# Altium schematic symbol library jlcpcb_2025_04_inductors_extended_1210.schlib: 422 symbols (part 6 of 8)
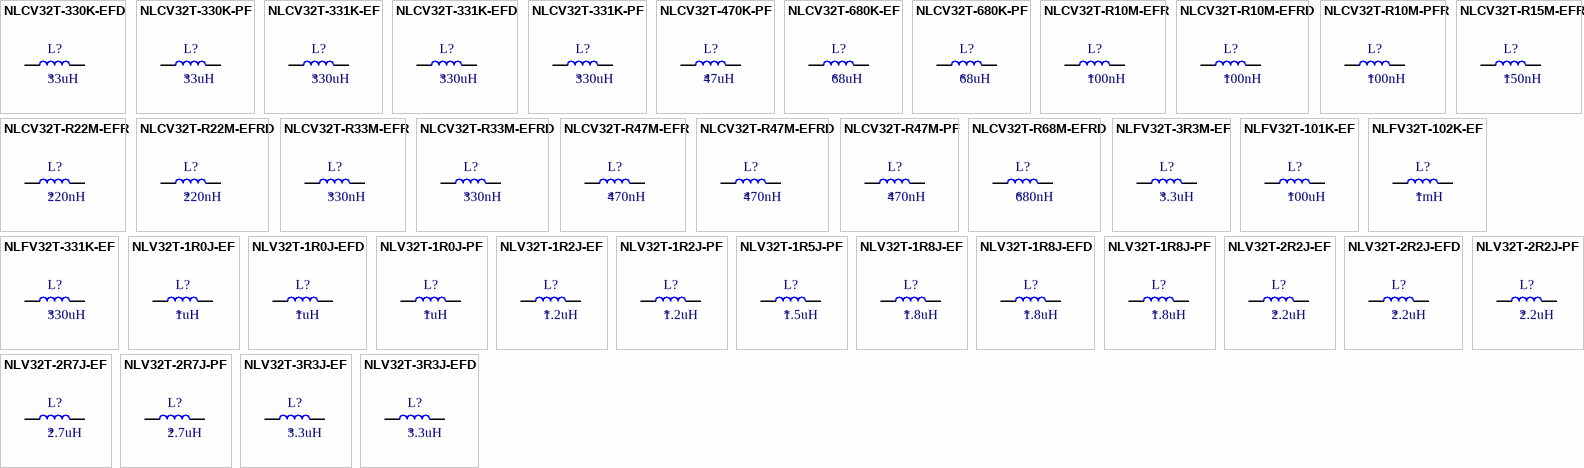
[diagram p15: symbols NLCV32T-330K-EFD to NLV32T-3R3J-EFD]

## NLV32T-1R2J-PF
designator L?  Inductance: 1.2uH
Inductor, 1.2uH, ±5%, 750mΩ, 390mA, SMD 1210; Manufacturer: TDK; Manufacturer Part Number: NLV32T-1R2J-PF; Self-Resonant Frequency: 100MHz; Q Factor: 30@7.96MHz; Package Size: 1210; JLCPCB Basic Part: No; JLCPCB Part Number: C87562; Supplier 1: LCSC; Category: Inductors; Supplier Part Number 1: C87562; Tolerance: ±5%; Rated Current: 390mA; DC Resistance: 750mΩ; RoHS: Yes; ComponentLink1Description: Datasheet; ComponentLink1URL: https://wmsc.lcsc.com/wmsc/upload/file/pdf/v2/lcsc/2304140030_TDK-NLV32T-1R2J-PF_C87562.pdf; ComponentLink2Description: JLCPCB Part URL; ComponentLink2URL: https://jlcpcb.com/partdetail/C87562; ComponentLink3Description: LCSC Part URL; ComponentLink3URL: https://lcsc.com/product-detail/Inductors-SMD_TDK-TDK-NLV32T-1R2J-PF_C87562.html
footprint IND-1210 (1210 (3225M) Inductor)
pins: 1, 2

## NLV32T-1R5J-PF
designator L?  Inductance: 1.5uH
Inductor, 1.5uH, ±5%, 850mΩ, 370mA, SMD 1210; Manufacturer: TDK; Manufacturer Part Number: NLV32T-1R5J-PF; Self-Resonant Frequency: 85MHz; Q Factor: 30@7.96MHz; Package Size: 1210; JLCPCB Basic Part: No; JLCPCB Part Number: C76837; Supplier 1: LCSC; Category: Inductors; Supplier Part Number 1: C76837; Tolerance: ±5%; Rated Current: 370mA; DC Resistance: 850mΩ; RoHS: Yes; ComponentLink1Description: Datasheet; ComponentLink1URL: https://wmsc.lcsc.com/wmsc/upload/file/pdf/v2/lcsc/2304140030_TDK-NLV32T-1R5J-PF_C76837.pdf; ComponentLink2Description: JLCPCB Part URL; ComponentLink2URL: https://jlcpcb.com/partdetail/C76837; ComponentLink3Description: LCSC Part URL; ComponentLink3URL: https://lcsc.com/product-detail/Inductors-SMD_TDK-TDK-NLV32T-1R5J-PF_C76837.html
footprint IND-1210 (1210 (3225M) Inductor)
pins: 1, 2

## NLV32T-1R8J-EF
designator L?  Inductance: 1.8uH
Inductor, 1.8uH, ±5%, 900mΩ, 350mA, SMD 1210; Manufacturer: TDK; Manufacturer Part Number: NLV32T-1R8J-EF; Self-Resonant Frequency: 80MHz; Q Factor: 30@7.96MHz; Package Size: 1210; JLCPCB Basic Part: No; JLCPCB Part Number: C295127; Supplier 1: LCSC; Category: Inductors; Supplier Part Number 1: C295127; Tolerance: ±5%; Rated Current: 350mA; DC Resistance: 900mΩ; RoHS: Yes; ComponentLink1Description: Datasheet; ComponentLink1URL: https://wmsc.lcsc.com/wmsc/upload/file/pdf/v2/lcsc/2304140030_TDK-NLV32T-1R8J-EF_C295127.pdf; ComponentLink2Description: JLCPCB Part URL; ComponentLink2URL: https://jlcpcb.com/partdetail/C295127; ComponentLink3Description: LCSC Part URL; ComponentLink3URL: https://lcsc.com/product-detail/Inductors-SMD_TDK-TDK-NLV32T-1R8J-EF_C295127.html
footprint IND-1210 (1210 (3225M) Inductor)
pins: 1, 2

## NLV32T-1R8J-EFD
designator L?  Inductance: 1.8uH
Inductor, 1.8uH, ±5%, 900mΩ, 350mA, SMD 1210; Manufacturer: TDK; Manufacturer Part Number: NLV32T-1R8J-EFD; Self-Resonant Frequency: 80MHz; Q Factor: 30@7.96MHz; Package Size: 1210; JLCPCB Basic Part: No; JLCPCB Part Number: C295306; Supplier 1: LCSC; Category: Inductors; Supplier Part Number 1: C295306; Tolerance: ±5%; Rated Current: 350mA; DC Resistance: 900mΩ; RoHS: Yes; ComponentLink1Description: Datasheet; ComponentLink1URL: https://wmsc.lcsc.com/wmsc/upload/file/pdf/v2/lcsc/2304140030_TDK-NLV32T-1R8J-EFD_C295306.pdf; ComponentLink2Description: JLCPCB Part URL; ComponentLink2URL: https://jlcpcb.com/partdetail/C295306; ComponentLink3Description: LCSC Part URL; ComponentLink3URL: https://lcsc.com/product-detail/Inductors-SMD_TDK-TDK-NLV32T-1R8J-EFD_C295306.html
footprint IND-1210 (1210 (3225M) Inductor)
pins: 1, 2

## NLV32T-1R8J-PF
designator L?  Inductance: 1.8uH
Inductor, 1.8uH, ±5%, 900mΩ, 350mA, SMD 1210; Manufacturer: TDK; Manufacturer Part Number: NLV32T-1R8J-PF; Self-Resonant Frequency: 80MHz; Q Factor: 30@7.96MHz; Package Size: 1210; JLCPCB Basic Part: No; JLCPCB Part Number: C41039; Supplier 1: LCSC; Category: Inductors; Supplier Part Number 1: C41039; Tolerance: ±5%; Rated Current: 350mA; DC Resistance: 900mΩ; RoHS: Yes; ComponentLink1Description: Datasheet; ComponentLink1URL: https://wmsc.lcsc.com/wmsc/upload/file/pdf/v2/lcsc/1810211512_TDK-NLV32T-1R8J-PF_C41039.pdf; ComponentLink2Description: JLCPCB Part URL; ComponentLink2URL: https://jlcpcb.com/partdetail/C41039; ComponentLink3Description: LCSC Part URL; ComponentLink3URL: https://lcsc.com/product-detail/Inductors-SMD_TDK-TDK-NLV32T-1R8J-PF_C41039.html
footprint IND-1210 (1210 (3225M) Inductor)
pins: 1, 2

## NLV32T-2R2J-EF
designator L?  Inductance: 2.2uH
Inductor, 2.2uH, ±5%, 1Ω, 320mA, SMD 1210; Manufacturer: TDK; Manufacturer Part Number: NLV32T-2R2J-EF; Self-Resonant Frequency: 75MHz; Q Factor: 30@7.96MHz; Package Size: 1210; JLCPCB Basic Part: No; JLCPCB Part Number: C286757; Supplier 1: LCSC; Category: Inductors; Supplier Part Number 1: C286757; Tolerance: ±5%; Rated Current: 320mA; DC Resistance: 1Ω; RoHS: Yes; ComponentLink1Description: Datasheet; ComponentLink1URL: https://wmsc.lcsc.com/wmsc/upload/file/pdf/v2/lcsc/2304140030_TDK-NLV32T-2R2J-EF_C286757.pdf; ComponentLink2Description: JLCPCB Part URL; ComponentLink2URL: https://jlcpcb.com/partdetail/C286757; ComponentLink3Description: LCSC Part URL; ComponentLink3URL: https://lcsc.com/product-detail/Inductors-SMD_TDK-TDK-NLV32T-2R2J-EF_C286757.html
footprint IND-1210 (1210 (3225M) Inductor)
pins: 1, 2

## NLV32T-2R2J-EFD
designator L?  Inductance: 2.2uH
Inductor, 2.2uH, ±5%, 1Ω, 320mA, SMD 1210; Manufacturer: TDK; Manufacturer Part Number: NLV32T-2R2J-EFD; Self-Resonant Frequency: 75MHz; Q Factor: 30@7.96MHz; Package Size: 1210; JLCPCB Basic Part: No; JLCPCB Part Number: C295323; Supplier 1: LCSC; Category: Inductors; Supplier Part Number 1: C295323; Tolerance: ±5%; Rated Current: 320mA; DC Resistance: 1Ω; RoHS: Yes; ComponentLink1Description: Datasheet; ComponentLink1URL: https://wmsc.lcsc.com/wmsc/upload/file/pdf/v2/lcsc/2304140030_TDK-NLV32T-2R2J-EFD_C295323.pdf; ComponentLink2Description: JLCPCB Part URL; ComponentLink2URL: https://jlcpcb.com/partdetail/C295323; ComponentLink3Description: LCSC Part URL; ComponentLink3URL: https://lcsc.com/product-detail/Inductors-SMD_TDK-TDK-NLV32T-2R2J-EFD_C295323.html
footprint IND-1210 (1210 (3225M) Inductor)
pins: 1, 2

## NLV32T-2R2J-PF
designator L?  Inductance: 2.2uH
Inductor, 2.2uH, ±5%, 1Ω, 320mA, SMD 1210; Manufacturer: TDK; Manufacturer Part Number: NLV32T-2R2J-PF; Self-Resonant Frequency: 75MHz; Q Factor: 30@7.96MHz; Package Size: 1210; JLCPCB Basic Part: No; JLCPCB Part Number: C89016; Supplier 1: LCSC; Category: Inductors; Supplier Part Number 1: C89016; Tolerance: ±5%; Rated Current: 320mA; DC Resistance: 1Ω; RoHS: Yes; ComponentLink1Description: Datasheet; ComponentLink1URL: https://wmsc.lcsc.com/wmsc/upload/file/pdf/v2/lcsc/2304140030_TDK-NLV32T-2R2J-PF_C89016.pdf; ComponentLink2Description: JLCPCB Part URL; ComponentLink2URL: https://jlcpcb.com/partdetail/C89016; ComponentLink3Description: LCSC Part URL; ComponentLink3URL: https://lcsc.com/product-detail/Inductors-SMD_TDK-TDK-NLV32T-2R2J-PF_C89016.html
footprint IND-1210 (1210 (3225M) Inductor)
pins: 1, 2

## NLV32T-2R7J-EF
designator L?  Inductance: 2.7uH
Inductor, 2.7uH, ±5%, 1.1Ω, 290mA, SMD 1210; Manufacturer: TDK; Manufacturer Part Number: NLV32T-2R7J-EF; Self-Resonant Frequency: 70MHz; Q Factor: 30@7.96MHz; Package Size: 1210; JLCPCB Basic Part: No; JLCPCB Part Number: C295117; Supplier 1: LCSC; Category: Inductors; Supplier Part Number 1: C295117; Tolerance: ±5%; Rated Current: 290mA; DC Resistance: 1.1Ω; RoHS: Yes; ComponentLink1Description: Datasheet; ComponentLink1URL: https://wmsc.lcsc.com/wmsc/upload/file/pdf/v2/lcsc/2304140030_TDK-NLV32T-2R7J-EF_C295117.pdf; ComponentLink2Description: JLCPCB Part URL; ComponentLink2URL: https://jlcpcb.com/partdetail/C295117; ComponentLink3Description: LCSC Part URL; ComponentLink3URL: https://lcsc.com/product-detail/Inductors-SMD_TDK-TDK-NLV32T-2R7J-EF_C295117.html
footprint IND-1210 (1210 (3225M) Inductor)
pins: 1, 2

## NLV32T-2R7J-PF
designator L?  Inductance: 2.7uH
Inductor, 2.7uH, ±5%, 1.1Ω, 290mA, SMD 1210; Manufacturer: TDK; Manufacturer Part Number: NLV32T-2R7J-PF; Self-Resonant Frequency: 70MHz; Q Factor: 30@7.96MHz; Package Size: 1210; JLCPCB Basic Part: No; JLCPCB Part Number: C89017; Supplier 1: LCSC; Category: Inductors; Supplier Part Number 1: C89017; Tolerance: ±5%; Rated Current: 290mA; DC Resistance: 1.1Ω; RoHS: Yes; ComponentLink1Description: Datasheet; ComponentLink1URL: https://wmsc.lcsc.com/wmsc/upload/file/pdf/v2/lcsc/2304140030_TDK-NLV32T-2R7J-PF_C89017.pdf; ComponentLink2Description: JLCPCB Part URL; ComponentLink2URL: https://jlcpcb.com/partdetail/C89017; ComponentLink3Description: LCSC Part URL; ComponentLink3URL: https://lcsc.com/product-detail/Inductors-SMD_TDK-TDK-NLV32T-2R7J-PF_C89017.html
footprint IND-1210 (1210 (3225M) Inductor)
pins: 1, 2

## NLV32T-3R3J-EF
designator L?  Inductance: 3.3uH
Inductor, 3.3uH, ±5%, 1.2Ω, 260mA, SMD 1210; Manufacturer: TDK; Manufacturer Part Number: NLV32T-3R3J-EF; Self-Resonant Frequency: 60MHz; Q Factor: 30@7.96MHz; Package Size: 1210; JLCPCB Basic Part: No; JLCPCB Part Number: C295115; Supplier 1: LCSC; Category: Inductors; Supplier Part Number 1: C295115; Tolerance: ±5%; Rated Current: 260mA; DC Resistance: 1.2Ω; RoHS: Yes; ComponentLink1Description: Datasheet; ComponentLink1URL: https://wmsc.lcsc.com/wmsc/upload/file/pdf/v2/lcsc/2304140030_TDK-NLV32T-3R3J-EF_C295115.pdf; ComponentLink2Description: JLCPCB Part URL; ComponentLink2URL: https://jlcpcb.com/partdetail/C295115; ComponentLink3Description: LCSC Part URL; ComponentLink3URL: https://lcsc.com/product-detail/Inductors-SMD_TDK-TDK-NLV32T-3R3J-EF_C295115.html
footprint IND-1210 (1210 (3225M) Inductor)
pins: 1, 2

## NLV32T-3R3J-EFD
designator L?  Inductance: 3.3uH
Inductor, 3.3uH, ±5%, 1.2Ω, 260mA, SMD 1210; Manufacturer: TDK; Manufacturer Part Number: NLV32T-3R3J-EFD; Self-Resonant Frequency: 60MHz; Q Factor: 30@7.96MHz; Package Size: 1210; JLCPCB Basic Part: No; JLCPCB Part Number: C295217; Supplier 1: LCSC; Category: Inductors; Supplier Part Number 1: C295217; Tolerance: ±5%; Rated Current: 260mA; DC Resistance: 1.2Ω; RoHS: Yes; ComponentLink1Description: Datasheet; ComponentLink1URL: https://wmsc.lcsc.com/wmsc/upload/file/pdf/v2/lcsc/2304140030_TDK-NLV32T-3R3J-EFD_C295217.pdf; ComponentLink2Description: JLCPCB Part URL; ComponentLink2URL: https://jlcpcb.com/partdetail/C295217; ComponentLink3Description: LCSC Part URL; ComponentLink3URL: https://lcsc.com/product-detail/Inductors-SMD_TDK-TDK-NLV32T-3R3J-EFD_C295217.html
footprint IND-1210 (1210 (3225M) Inductor)
pins: 1, 2

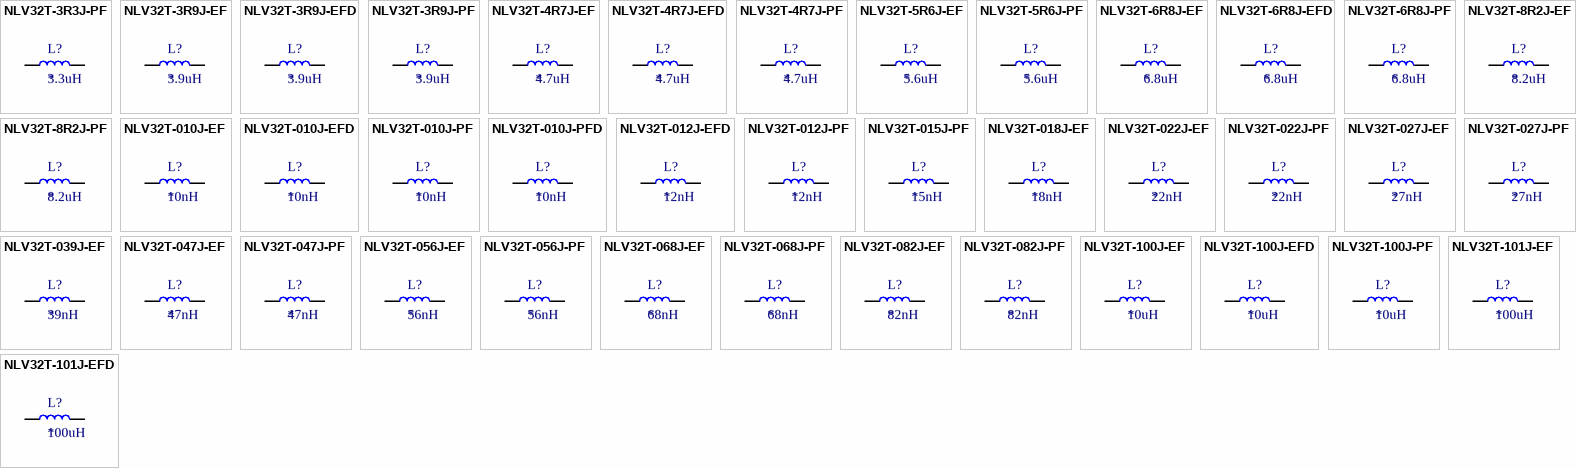
[diagram p7: symbols NLV32T-3R3J-PF to NLV32T-101J-EFD]

## NLV32T-3R3J-PF
designator L?  Inductance: 3.3uH
Inductor, 3.3uH, ±5%, 1.2Ω, 260mA, SMD 1210; Manufacturer: TDK; Manufacturer Part Number: NLV32T-3R3J-PF; Self-Resonant Frequency: 60MHz; Q Factor: 30@7.96MHz; Package Size: 1210; JLCPCB Basic Part: No; JLCPCB Part Number: C89019; Supplier 1: LCSC; Category: Inductors; Supplier Part Number 1: C89019; Tolerance: ±5%; Rated Current: 260mA; DC Resistance: 1.2Ω; RoHS: Yes; ComponentLink1Description: Datasheet; ComponentLink1URL: https://wmsc.lcsc.com/wmsc/upload/file/pdf/v2/lcsc/2304140030_TDK-NLV32T-3R3J-PF_C89019.pdf; ComponentLink2Description: JLCPCB Part URL; ComponentLink2URL: https://jlcpcb.com/partdetail/C89019; ComponentLink3Description: LCSC Part URL; ComponentLink3URL: https://lcsc.com/product-detail/Inductors-SMD_TDK-TDK-NLV32T-3R3J-PF_C89019.html
footprint IND-1210 (1210 (3225M) Inductor)
pins: 1, 2

## NLV32T-3R9J-EF
designator L?  Inductance: 3.9uH
Inductor, 3.9uH, ±5%, 1.3Ω, 250mA, SMD 1210; Manufacturer: TDK; Manufacturer Part Number: NLV32T-3R9J-EF; Self-Resonant Frequency: 55MHz; Q Factor: 30@7.96MHz; Package Size: 1210; JLCPCB Basic Part: No; JLCPCB Part Number: C295120; Supplier 1: LCSC; Category: Inductors; Supplier Part Number 1: C295120; Tolerance: ±5%; Rated Current: 250mA; DC Resistance: 1.3Ω; RoHS: Yes; ComponentLink1Description: Datasheet; ComponentLink1URL: https://wmsc.lcsc.com/wmsc/upload/file/pdf/v2/lcsc/2304140030_TDK-NLV32T-3R9J-EF_C295120.pdf; ComponentLink2Description: JLCPCB Part URL; ComponentLink2URL: https://jlcpcb.com/partdetail/C295120; ComponentLink3Description: LCSC Part URL; ComponentLink3URL: https://lcsc.com/product-detail/Inductors-SMD_TDK-TDK-NLV32T-3R9J-EF_C295120.html
footprint IND-1210 (1210 (3225M) Inductor)
pins: 1, 2

## NLV32T-3R9J-EFD
designator L?  Inductance: 3.9uH
Inductor, 3.9uH, ±5%, 1.3Ω, 250mA, SMD 1210; Manufacturer: TDK; Manufacturer Part Number: NLV32T-3R9J-EFD; Self-Resonant Frequency: 55MHz; Q Factor: 30@7.96MHz; Package Size: 1210; JLCPCB Basic Part: No; JLCPCB Part Number: C295309; Supplier 1: LCSC; Category: Inductors; Supplier Part Number 1: C295309; Tolerance: ±5%; Rated Current: 250mA; DC Resistance: 1.3Ω; RoHS: Yes; ComponentLink1Description: Datasheet; ComponentLink1URL: https://wmsc.lcsc.com/wmsc/upload/file/pdf/v2/lcsc/2304140030_TDK-NLV32T-3R9J-EFD_C295309.pdf; ComponentLink2Description: JLCPCB Part URL; ComponentLink2URL: https://jlcpcb.com/partdetail/C295309; ComponentLink3Description: LCSC Part URL; ComponentLink3URL: https://lcsc.com/product-detail/Inductors-SMD_TDK-TDK-NLV32T-3R9J-EFD_C295309.html
footprint IND-1210 (1210 (3225M) Inductor)
pins: 1, 2

## NLV32T-3R9J-PF
designator L?  Inductance: 3.9uH
Inductor, 3.9uH, ±5%, 1.3Ω, 250mA, SMD 1210; Manufacturer: TDK; Manufacturer Part Number: NLV32T-3R9J-PF; Self-Resonant Frequency: 55MHz; Q Factor: 30@7.96MHz; Package Size: 1210; JLCPCB Basic Part: No; JLCPCB Part Number: C89020; Supplier 1: LCSC; Category: Inductors; Supplier Part Number 1: C89020; Tolerance: ±5%; Rated Current: 250mA; DC Resistance: 1.3Ω; RoHS: Yes; ComponentLink1Description: Datasheet; ComponentLink1URL: https://wmsc.lcsc.com/wmsc/upload/file/pdf/v2/lcsc/2304140030_TDK-NLV32T-3R9J-PF_C89020.pdf; ComponentLink2Description: JLCPCB Part URL; ComponentLink2URL: https://jlcpcb.com/partdetail/C89020; ComponentLink3Description: LCSC Part URL; ComponentLink3URL: https://lcsc.com/product-detail/Inductors-SMD_TDK-TDK-NLV32T-3R9J-PF_C89020.html
footprint IND-1210 (1210 (3225M) Inductor)
pins: 1, 2

## NLV32T-4R7J-EF
designator L?  Inductance: 4.7uH
Inductor, 4.7uH, ±5%, 1.5Ω, 220mA, SMD 1210; Manufacturer: TDK; Manufacturer Part Number: NLV32T-4R7J-EF; Self-Resonant Frequency: 50MHz; Q Factor: 30@7.96MHz; Package Size: 1210; JLCPCB Basic Part: No; JLCPCB Part Number: C295128; Supplier 1: LCSC; Category: Inductors; Supplier Part Number 1: C295128; Tolerance: ±5%; Rated Current: 220mA; DC Resistance: 1.5Ω; RoHS: Yes; ComponentLink1Description: Datasheet; ComponentLink1URL: https://wmsc.lcsc.com/wmsc/upload/file/pdf/v2/lcsc/2304140030_TDK-NLV32T-4R7J-EF_C295128.pdf; ComponentLink2Description: JLCPCB Part URL; ComponentLink2URL: https://jlcpcb.com/partdetail/C295128; ComponentLink3Description: LCSC Part URL; ComponentLink3URL: https://lcsc.com/product-detail/Inductors-SMD_TDK-TDK-NLV32T-4R7J-EF_C295128.html
footprint IND-1210 (1210 (3225M) Inductor)
pins: 1, 2

## NLV32T-4R7J-EFD
designator L?  Inductance: 4.7uH
Inductor, 4.7uH, ±5%, 1.5Ω, 220mA, SMD 1210; Manufacturer: TDK; Manufacturer Part Number: NLV32T-4R7J-EFD; Self-Resonant Frequency: 50MHz; Q Factor: 30@7.96MHz; Package Size: 1210; JLCPCB Basic Part: No; JLCPCB Part Number: C295369; Supplier 1: LCSC; Category: Inductors; Supplier Part Number 1: C295369; Tolerance: ±5%; Rated Current: 220mA; DC Resistance: 1.5Ω; RoHS: Yes; ComponentLink1Description: Datasheet; ComponentLink1URL: https://wmsc.lcsc.com/wmsc/upload/file/pdf/v2/lcsc/2304140030_TDK-NLV32T-4R7J-EFD_C295369.pdf; ComponentLink2Description: JLCPCB Part URL; ComponentLink2URL: https://jlcpcb.com/partdetail/C295369; ComponentLink3Description: LCSC Part URL; ComponentLink3URL: https://lcsc.com/product-detail/Inductors-SMD_TDK-TDK-NLV32T-4R7J-EFD_C295369.html
footprint IND-1210 (1210 (3225M) Inductor)
pins: 1, 2

## NLV32T-4R7J-PF
designator L?  Inductance: 4.7uH
Inductor, 4.7uH, ±5%, 1.5Ω, 220mA, SMD 1210; Manufacturer: TDK; Manufacturer Part Number: NLV32T-4R7J-PF; Self-Resonant Frequency: 50MHz; Q Factor: 30@7.96MHz; Package Size: 1210; JLCPCB Basic Part: No; JLCPCB Part Number: C76842; Supplier 1: LCSC; Category: Inductors; Supplier Part Number 1: C76842; Tolerance: ±5%; Rated Current: 220mA; DC Resistance: 1.5Ω; RoHS: Yes; ComponentLink1Description: Datasheet; ComponentLink1URL: https://wmsc.lcsc.com/wmsc/upload/file/pdf/v2/lcsc/2304140030_TDK-NLV32T-4R7J-PF_C76842.pdf; ComponentLink2Description: JLCPCB Part URL; ComponentLink2URL: https://jlcpcb.com/partdetail/C76842; ComponentLink3Description: LCSC Part URL; ComponentLink3URL: https://lcsc.com/product-detail/Inductors-SMD_TDK-TDK-NLV32T-4R7J-PF_C76842.html
footprint IND-1210 (1210 (3225M) Inductor)
pins: 1, 2

## NLV32T-5R6J-EF
designator L?  Inductance: 5.6uH
Inductor, 5.6uH, ±5%, 1.6Ω, 200mA, SMD 1210; Manufacturer: TDK; Manufacturer Part Number: NLV32T-5R6J-EF; Self-Resonant Frequency: 45MHz; Q Factor: 30@7.96MHz; Package Size: 1210; JLCPCB Basic Part: No; JLCPCB Part Number: C295106; Supplier 1: LCSC; Category: Inductors; Supplier Part Number 1: C295106; Tolerance: ±5%; Rated Current: 200mA; DC Resistance: 1.6Ω; RoHS: Yes; ComponentLink1Description: Datasheet; ComponentLink1URL: https://wmsc.lcsc.com/wmsc/upload/file/pdf/v2/lcsc/2304140030_TDK-NLV32T-5R6J-EF_C295106.pdf; ComponentLink2Description: JLCPCB Part URL; ComponentLink2URL: https://jlcpcb.com/partdetail/C295106; ComponentLink3Description: LCSC Part URL; ComponentLink3URL: https://lcsc.com/product-detail/Inductors-SMD_TDK-TDK-NLV32T-5R6J-EF_C295106.html
footprint IND-1210 (1210 (3225M) Inductor)
pins: 1, 2

## NLV32T-5R6J-PF
designator L?  Inductance: 5.6uH
Inductor, 5.6uH, ±5%, 1.6Ω, 200mA, SMD 1210; Manufacturer: TDK; Manufacturer Part Number: NLV32T-5R6J-PF; Self-Resonant Frequency: 45MHz; Q Factor: 30@7.96MHz; Package Size: 1210; JLCPCB Basic Part: No; JLCPCB Part Number: C87563; Supplier 1: LCSC; Category: Inductors; Supplier Part Number 1: C87563; Tolerance: ±5%; Rated Current: 200mA; DC Resistance: 1.6Ω; RoHS: Yes; ComponentLink1Description: Datasheet; ComponentLink1URL: https://wmsc.lcsc.com/wmsc/upload/file/pdf/v2/lcsc/2304140030_TDK-NLV32T-5R6J-PF_C87563.pdf; ComponentLink2Description: JLCPCB Part URL; ComponentLink2URL: https://jlcpcb.com/partdetail/C87563; ComponentLink3Description: LCSC Part URL; ComponentLink3URL: https://lcsc.com/product-detail/Inductors-SMD_TDK-TDK-NLV32T-5R6J-PF_C87563.html
footprint IND-1210 (1210 (3225M) Inductor)
pins: 1, 2

## NLV32T-6R8J-EF
designator L?  Inductance: 6.8uH
Inductor, 6.8uH, ±5%, 1.8Ω, 180mA, SMD 1210; Manufacturer: TDK; Manufacturer Part Number: NLV32T-6R8J-EF; Self-Resonant Frequency: 40MHz; Q Factor: 30@7.96MHz; Package Size: 1210; JLCPCB Basic Part: No; JLCPCB Part Number: C295145; Supplier 1: LCSC; Category: Inductors; Supplier Part Number 1: C295145; Tolerance: ±5%; Rated Current: 180mA; DC Resistance: 1.8Ω; RoHS: Yes; ComponentLink1Description: Datasheet; ComponentLink1URL: https://wmsc.lcsc.com/wmsc/upload/file/pdf/v2/lcsc/2304140030_TDK-NLV32T-6R8J-EF_C295145.pdf; ComponentLink2Description: JLCPCB Part URL; ComponentLink2URL: https://jlcpcb.com/partdetail/C295145; ComponentLink3Description: LCSC Part URL; ComponentLink3URL: https://lcsc.com/product-detail/Inductors-SMD_TDK-TDK-NLV32T-6R8J-EF_C295145.html
footprint IND-1210 (1210 (3225M) Inductor)
pins: 1, 2

## NLV32T-6R8J-EFD
designator L?  Inductance: 6.8uH
Inductor, 6.8uH, ±5%, 1.8Ω, 180mA, SMD 1210; Manufacturer: TDK; Manufacturer Part Number: NLV32T-6R8J-EFD; Self-Resonant Frequency: 40MHz; Q Factor: 30@7.96MHz; Package Size: 1210; JLCPCB Basic Part: No; JLCPCB Part Number: C295324; Supplier 1: LCSC; Category: Inductors; Supplier Part Number 1: C295324; Tolerance: ±5%; Rated Current: 180mA; DC Resistance: 1.8Ω; RoHS: Yes; ComponentLink1Description: Datasheet; ComponentLink1URL: https://wmsc.lcsc.com/wmsc/upload/file/pdf/v2/lcsc/2304140030_TDK-NLV32T-6R8J-EFD_C295324.pdf; ComponentLink2Description: JLCPCB Part URL; ComponentLink2URL: https://jlcpcb.com/partdetail/C295324; ComponentLink3Description: LCSC Part URL; ComponentLink3URL: https://lcsc.com/product-detail/Inductors-SMD_TDK-TDK-NLV32T-6R8J-EFD_C295324.html
footprint IND-1210 (1210 (3225M) Inductor)
pins: 1, 2

## NLV32T-6R8J-PF
designator L?  Inductance: 6.8uH
Inductor, 6.8uH, ±5%, 1.8Ω, 180mA, SMD 1210; Manufacturer: TDK; Manufacturer Part Number: NLV32T-6R8J-PF; Self-Resonant Frequency: 40MHz; Q Factor: 30@7.96MHz; Package Size: 1210; JLCPCB Basic Part: No; JLCPCB Part Number: C89023; Supplier 1: LCSC; Category: Inductors; Supplier Part Number 1: C89023; Tolerance: ±5%; Rated Current: 180mA; DC Resistance: 1.8Ω; RoHS: Yes; ComponentLink1Description: Datasheet; ComponentLink1URL: https://wmsc.lcsc.com/wmsc/upload/file/pdf/v2/lcsc/1811111753_TDK-NLV32T-6R8J-PF_C89023.pdf; ComponentLink2Description: JLCPCB Part URL; ComponentLink2URL: https://jlcpcb.com/partdetail/C89023; ComponentLink3Description: LCSC Part URL; ComponentLink3URL: https://lcsc.com/product-detail/Inductors-SMD_TDK-TDK-NLV32T-6R8J-PF_C89023.html
footprint IND-1210 (1210 (3225M) Inductor)
pins: 1, 2

## NLV32T-8R2J-EF
designator L?  Inductance: 8.2uH
Inductor, 8.2uH, ±5%, 2Ω, 170mA, SMD 1210; Manufacturer: TDK; Manufacturer Part Number: NLV32T-8R2J-EF; Self-Resonant Frequency: 35MHz; Q Factor: 30@7.96MHz; Package Size: 1210; JLCPCB Basic Part: No; JLCPCB Part Number: C295147; Supplier 1: LCSC; Category: Inductors; Supplier Part Number 1: C295147; Tolerance: ±5%; Rated Current: 170mA; DC Resistance: 2Ω; RoHS: Yes; ComponentLink1Description: Datasheet; ComponentLink1URL: https://wmsc.lcsc.com/wmsc/upload/file/pdf/v2/lcsc/2304140030_TDK-NLV32T-8R2J-EF_C295147.pdf; ComponentLink2Description: JLCPCB Part URL; ComponentLink2URL: https://jlcpcb.com/partdetail/C295147; ComponentLink3Description: LCSC Part URL; ComponentLink3URL: https://lcsc.com/product-detail/Inductors-SMD_TDK-TDK-NLV32T-8R2J-EF_C295147.html
footprint IND-1210 (1210 (3225M) Inductor)
pins: 1, 2

## NLV32T-8R2J-PF
designator L?  Inductance: 8.2uH
Inductor, 8.2uH, ±5%, 2Ω, 170mA, SMD 1210; Manufacturer: TDK; Manufacturer Part Number: NLV32T-8R2J-PF; Self-Resonant Frequency: 35MHz; Q Factor: 30@7.96MHz; Package Size: 1210; JLCPCB Basic Part: No; JLCPCB Part Number: C76845; Supplier 1: LCSC; Category: Inductors; Supplier Part Number 1: C76845; Tolerance: ±5%; Rated Current: 170mA; DC Resistance: 2Ω; RoHS: Yes; ComponentLink1Description: Datasheet; ComponentLink1URL: https://wmsc.lcsc.com/wmsc/upload/file/pdf/v2/lcsc/2304140030_TDK-NLV32T-8R2J-PF_C76845.pdf; ComponentLink2Description: JLCPCB Part URL; ComponentLink2URL: https://jlcpcb.com/partdetail/C76845; ComponentLink3Description: LCSC Part URL; ComponentLink3URL: https://lcsc.com/product-detail/Inductors-SMD_TDK-TDK-NLV32T-8R2J-PF_C76845.html
footprint IND-1210 (1210 (3225M) Inductor)
pins: 1, 2

## NLV32T-010J-EF
designator L?  Inductance: 10nH
Inductor, 10nH, ±5%, 130mΩ, 450mA, SMD 1210; Manufacturer: TDK; Manufacturer Part Number: NLV32T-010J-EF; Self-Resonant Frequency: 2.5GHz; Q Factor: 15@100MHz; Package Size: 1210; JLCPCB Basic Part: No; JLCPCB Part Number: C295168; Supplier 1: LCSC; Category: Inductors; Supplier Part Number 1: C295168; Tolerance: ±5%; Rated Current: 450mA; DC Resistance: 130mΩ; RoHS: Yes; ComponentLink1Description: Datasheet; ComponentLink1URL: https://wmsc.lcsc.com/wmsc/upload/file/pdf/v2/lcsc/2304140030_TDK-NLV32T-010J-EF_C295168.pdf; ComponentLink2Description: JLCPCB Part URL; ComponentLink2URL: https://jlcpcb.com/partdetail/C295168; ComponentLink3Description: LCSC Part URL; ComponentLink3URL: https://lcsc.com/product-detail/Inductors-SMD_TDK-TDK-NLV32T-010J-EF_C295168.html
footprint IND-1210 (1210 (3225M) Inductor)
pins: 1, 2

## NLV32T-010J-EFD
designator L?  Inductance: 10nH
Inductor, 10nH, ±5%, 130mΩ, 450mA, SMD 1210; Manufacturer: TDK; Manufacturer Part Number: NLV32T-010J-EFD; Self-Resonant Frequency: 2.5GHz; Q Factor: 15@100MHz; Package Size: 1210; JLCPCB Basic Part: No; JLCPCB Part Number: C295233; Supplier 1: LCSC; Category: Inductors; Supplier Part Number 1: C295233; Tolerance: ±5%; Rated Current: 450mA; DC Resistance: 130mΩ; RoHS: Yes; ComponentLink1Description: Datasheet; ComponentLink1URL: https://wmsc.lcsc.com/wmsc/upload/file/pdf/v2/lcsc/2304140030_TDK-NLV32T-010J-EFD_C295233.pdf; ComponentLink2Description: JLCPCB Part URL; ComponentLink2URL: https://jlcpcb.com/partdetail/C295233; ComponentLink3Description: LCSC Part URL; ComponentLink3URL: https://lcsc.com/product-detail/Inductors-SMD_TDK-TDK-NLV32T-010J-EFD_C295233.html
footprint IND-1210 (1210 (3225M) Inductor)
pins: 1, 2

## NLV32T-010J-PF
designator L?  Inductance: 10nH
Inductor, 10nH, ±5%, 130mΩ, 450mA, SMD 1210; Manufacturer: TDK; Manufacturer Part Number: NLV32T-010J-PF; Self-Resonant Frequency: 2.5GHz; Q Factor: 15@100MHz; Package Size: 1210; JLCPCB Basic Part: No; JLCPCB Part Number: C250164; Supplier 1: LCSC; Category: Inductors; Supplier Part Number 1: C250164; Tolerance: ±5%; Rated Current: 450mA; DC Resistance: 130mΩ; RoHS: Yes; ComponentLink1Description: Datasheet; ComponentLink1URL: https://wmsc.lcsc.com/wmsc/upload/file/pdf/v2/lcsc/2304140030_TDK-NLV32T-010J-PF_C250164.pdf; ComponentLink2Description: JLCPCB Part URL; ComponentLink2URL: https://jlcpcb.com/partdetail/C250164; ComponentLink3Description: LCSC Part URL; ComponentLink3URL: https://lcsc.com/product-detail/Inductors-SMD_TDK-TDK-NLV32T-010J-PF_C250164.html
footprint IND-1210 (1210 (3225M) Inductor)
pins: 1, 2

## NLV32T-010J-PFD
designator L?  Inductance: 10nH
Inductor, 10nH, ±5%, 130mΩ, 450mA, SMD 1210; Manufacturer: TDK; Manufacturer Part Number: NLV32T-010J-PFD; Self-Resonant Frequency: 2.5GHz; Q Factor: 15@100MHz; Package Size: 1210; JLCPCB Basic Part: No; JLCPCB Part Number: C165805; Supplier 1: LCSC; Category: Inductors; Supplier Part Number 1: C165805; Tolerance: ±5%; Rated Current: 450mA; DC Resistance: 130mΩ; RoHS: Yes; ComponentLink1Description: Datasheet; ComponentLink1URL: https://wmsc.lcsc.com/wmsc/upload/file/pdf/v2/lcsc/1810201240_TDK-NLV32T-010J-PFD_C165805.pdf; ComponentLink2Description: JLCPCB Part URL; ComponentLink2URL: https://jlcpcb.com/partdetail/C165805; ComponentLink3Description: LCSC Part URL; ComponentLink3URL: https://lcsc.com/product-detail/Inductors-SMD_TDK-TDK-NLV32T-010J-PFD_C165805.html
footprint IND-1210 (1210 (3225M) Inductor)
pins: 1, 2

## NLV32T-012J-EFD
designator L?  Inductance: 12nH
Inductor, 12nH, ±5%, 140mΩ, 450mA, SMD 1210; Manufacturer: TDK; Manufacturer Part Number: NLV32T-012J-EFD; Self-Resonant Frequency: 2300MHz; Q Factor: 17@100MHz; Package Size: 1210; JLCPCB Basic Part: No; JLCPCB Part Number: C295360; Supplier 1: LCSC; Category: Inductors; Supplier Part Number 1: C295360; Tolerance: ±5%; Rated Current: 450mA; DC Resistance: 140mΩ; RoHS: Yes; ComponentLink1Description: Datasheet; ComponentLink1URL: https://wmsc.lcsc.com/wmsc/upload/file/pdf/v2/lcsc/2304140030_TDK-NLV32T-012J-EFD_C295360.pdf; ComponentLink2Description: JLCPCB Part URL; ComponentLink2URL: https://jlcpcb.com/partdetail/C295360; ComponentLink3Description: LCSC Part URL; ComponentLink3URL: https://lcsc.com/product-detail/Inductors-SMD_TDK-TDK-NLV32T-012J-EFD_C295360.html
footprint IND-1210 (1210 (3225M) Inductor)
pins: 1, 2

## NLV32T-012J-PF
designator L?  Inductance: 12nH
Inductor, 12nH, ±5%, 140mΩ, 450mA, SMD 1210; Manufacturer: TDK; Manufacturer Part Number: NLV32T-012J-PF; Self-Resonant Frequency: 2300MHz; Q Factor: 17@100MHz; Package Size: 1210; JLCPCB Basic Part: No; JLCPCB Part Number: C250165; Supplier 1: LCSC; Category: Inductors; Supplier Part Number 1: C250165; Tolerance: ±5%; Rated Current: 450mA; DC Resistance: 140mΩ; RoHS: Yes; ComponentLink1Description: Datasheet; ComponentLink1URL: https://wmsc.lcsc.com/wmsc/upload/file/pdf/v2/lcsc/2304140030_TDK-NLV32T-012J-PF_C250165.pdf; ComponentLink2Description: JLCPCB Part URL; ComponentLink2URL: https://jlcpcb.com/partdetail/C250165; ComponentLink3Description: LCSC Part URL; ComponentLink3URL: https://lcsc.com/product-detail/Inductors-SMD_TDK-TDK-NLV32T-012J-PF_C250165.html
footprint IND-1210 (1210 (3225M) Inductor)
pins: 1, 2

## NLV32T-015J-PF
designator L?  Inductance: 15nH
Inductor, 15nH, ±5%, 160mΩ, 450mA, SMD 1210; Manufacturer: TDK; Manufacturer Part Number: NLV32T-015J-PF; Self-Resonant Frequency: 2.1GHz; Q Factor: 19@100MHz; Package Size: 1210; JLCPCB Basic Part: No; JLCPCB Part Number: C250166; Supplier 1: LCSC; Category: Inductors; Supplier Part Number 1: C250166; Tolerance: ±5%; Rated Current: 450mA; DC Resistance: 160mΩ; RoHS: Yes; ComponentLink1Description: Datasheet; ComponentLink1URL: https://wmsc.lcsc.com/wmsc/upload/file/pdf/v2/lcsc/2304140030_TDK-NLV32T-015J-PF_C250166.pdf; ComponentLink2Description: JLCPCB Part URL; ComponentLink2URL: https://jlcpcb.com/partdetail/C250166; ComponentLink3Description: LCSC Part URL; ComponentLink3URL: https://lcsc.com/product-detail/Inductors-SMD_TDK-TDK-NLV32T-015J-PF_C250166.html
footprint IND-1210 (1210 (3225M) Inductor)
pins: 1, 2

## NLV32T-018J-EF
designator L?  Inductance: 18nH
Inductor, 18nH, ±5%, 180mΩ, 450mA, SMD 1210; Manufacturer: TDK; Manufacturer Part Number: NLV32T-018J-EF; Self-Resonant Frequency: 1900MHz; Q Factor: 21@100MHz; Package Size: 1210; JLCPCB Basic Part: No; JLCPCB Part Number: C295159; Supplier 1: LCSC; Category: Inductors; Supplier Part Number 1: C295159; Tolerance: ±5%; Rated Current: 450mA; DC Resistance: 180mΩ; RoHS: Yes; ComponentLink1Description: Datasheet; ComponentLink1URL: https://wmsc.lcsc.com/wmsc/upload/file/pdf/v2/lcsc/2304140030_TDK-NLV32T-018J-EF_C295159.pdf; ComponentLink2Description: JLCPCB Part URL; ComponentLink2URL: https://jlcpcb.com/partdetail/C295159; ComponentLink3Description: LCSC Part URL; ComponentLink3URL: https://lcsc.com/product-detail/Inductors-SMD_TDK-TDK-NLV32T-018J-EF_C295159.html
footprint IND-1210 (1210 (3225M) Inductor)
pins: 1, 2

## NLV32T-022J-EF
designator L?  Inductance: 22nH
Inductor, 22nH, ±5%, 200mΩ, 450mA, SMD 1210; Manufacturer: TDK; Manufacturer Part Number: NLV32T-022J-EF; Self-Resonant Frequency: 1.7GHz; Q Factor: 23@100MHz; Package Size: 1210; JLCPCB Basic Part: No; JLCPCB Part Number: C295160; Supplier 1: LCSC; Category: Inductors; Supplier Part Number 1: C295160; Tolerance: ±5%; Rated Current: 450mA; DC Resistance: 200mΩ; RoHS: Yes; ComponentLink1Description: Datasheet; ComponentLink1URL: https://wmsc.lcsc.com/wmsc/upload/file/pdf/v2/lcsc/2304140030_TDK-NLV32T-022J-EF_C295160.pdf; ComponentLink2Description: JLCPCB Part URL; ComponentLink2URL: https://jlcpcb.com/partdetail/C295160; ComponentLink3Description: LCSC Part URL; ComponentLink3URL: https://lcsc.com/product-detail/Inductors-SMD_TDK-TDK-NLV32T-022J-EF_C295160.html
footprint IND-1210 (1210 (3225M) Inductor)
pins: 1, 2

## NLV32T-022J-PF
designator L?  Inductance: 22nH
Inductor, 22nH, ±5%, 200mΩ, 450mA, SMD 1210; Manufacturer: TDK; Manufacturer Part Number: NLV32T-022J-PF; Self-Resonant Frequency: 1.7GHz; Q Factor: 23@100MHz; Package Size: 1210; JLCPCB Basic Part: No; JLCPCB Part Number: C250168; Supplier 1: LCSC; Category: Inductors; Supplier Part Number 1: C250168; Tolerance: ±5%; Rated Current: 450mA; DC Resistance: 200mΩ; RoHS: Yes; ComponentLink1Description: Datasheet; ComponentLink1URL: https://wmsc.lcsc.com/wmsc/upload/file/pdf/v2/lcsc/2304140030_TDK-NLV32T-022J-PF_C250168.pdf; ComponentLink2Description: JLCPCB Part URL; ComponentLink2URL: https://jlcpcb.com/partdetail/C250168; ComponentLink3Description: LCSC Part URL; ComponentLink3URL: https://lcsc.com/product-detail/Inductors-SMD_TDK-TDK-NLV32T-022J-PF_C250168.html
footprint IND-1210 (1210 (3225M) Inductor)
pins: 1, 2

## NLV32T-027J-EF
designator L?  Inductance: 27nH
Inductor, 27nH, ±5%, 220mΩ, 450mA, SMD 1210; Manufacturer: TDK; Manufacturer Part Number: NLV32T-027J-EF; Self-Resonant Frequency: 1.5GHz; Q Factor: 23@100MHz; Package Size: 1210; JLCPCB Basic Part: No; JLCPCB Part Number: C295136; Supplier 1: LCSC; Category: Inductors; Supplier Part Number 1: C295136; Tolerance: ±5%; Rated Current: 450mA; DC Resistance: 220mΩ; RoHS: Yes; ComponentLink1Description: Datasheet; ComponentLink1URL: https://wmsc.lcsc.com/wmsc/upload/file/pdf/v2/lcsc/2304140030_TDK-NLV32T-027J-EF_C295136.pdf; ComponentLink2Description: JLCPCB Part URL; ComponentLink2URL: https://jlcpcb.com/partdetail/C295136; ComponentLink3Description: LCSC Part URL; ComponentLink3URL: https://lcsc.com/product-detail/Inductors-SMD_TDK-TDK-NLV32T-027J-EF_C295136.html
footprint IND-1210 (1210 (3225M) Inductor)
pins: 1, 2

## NLV32T-027J-PF
designator L?  Inductance: 27nH
Inductor, 27nH, ±5%, 220mΩ, 450mA, SMD 1210; Manufacturer: TDK; Manufacturer Part Number: NLV32T-027J-PF; Self-Resonant Frequency: 1.5GHz; Q Factor: 23@100MHz; Package Size: 1210; JLCPCB Basic Part: No; JLCPCB Part Number: C88514; Supplier 1: LCSC; Category: Inductors; Supplier Part Number 1: C88514; Tolerance: ±5%; Rated Current: 450mA; DC Resistance: 220mΩ; RoHS: Yes; ComponentLink1Description: Datasheet; ComponentLink1URL: https://wmsc.lcsc.com/wmsc/upload/file/pdf/v2/lcsc/1810262009_TDK-NLV32T-027J-PF_C88514.pdf; ComponentLink2Description: JLCPCB Part URL; ComponentLink2URL: https://jlcpcb.com/partdetail/C88514; ComponentLink3Description: LCSC Part URL; ComponentLink3URL: https://lcsc.com/product-detail/Inductors-SMD_TDK-TDK-NLV32T-027J-PF_C88514.html
footprint IND-1210 (1210 (3225M) Inductor)
pins: 1, 2

## NLV32T-039J-EF
designator L?  Inductance: 39nH
Inductor, 39nH, ±5%, 270mΩ, 450mA, SMD 1210; Manufacturer: TDK; Manufacturer Part Number: NLV32T-039J-EF; Self-Resonant Frequency: 1.3GHz; Q Factor: 25@100MHz; Package Size: 1210; JLCPCB Basic Part: No; JLCPCB Part Number: C295138; Supplier 1: LCSC; Category: Inductors; Supplier Part Number 1: C295138; Tolerance: ±5%; Rated Current: 450mA; DC Resistance: 270mΩ; RoHS: Yes; ComponentLink1Description: Datasheet; ComponentLink1URL: https://wmsc.lcsc.com/wmsc/upload/file/pdf/v2/lcsc/2304140030_TDK-NLV32T-039J-EF_C295138.pdf; ComponentLink2Description: JLCPCB Part URL; ComponentLink2URL: https://jlcpcb.com/partdetail/C295138; ComponentLink3Description: LCSC Part URL; ComponentLink3URL: https://lcsc.com/product-detail/Inductors-SMD_TDK-TDK-NLV32T-039J-EF_C295138.html
footprint IND-1210 (1210 (3225M) Inductor)
pins: 1, 2

## NLV32T-047J-EF
designator L?  Inductance: 47nH
Inductor, 47nH, ±5%, 300mΩ, 450mA, SMD 1210; Manufacturer: TDK; Manufacturer Part Number: NLV32T-047J-EF; Self-Resonant Frequency: 1.2GHz; Q Factor: 26@100MHz; Package Size: 1210; JLCPCB Basic Part: No; JLCPCB Part Number: C295139; Supplier 1: LCSC; Category: Inductors; Supplier Part Number 1: C295139; Tolerance: ±5%; Rated Current: 450mA; DC Resistance: 300mΩ; RoHS: Yes; ComponentLink1Description: Datasheet; ComponentLink1URL: https://wmsc.lcsc.com/wmsc/upload/file/pdf/v2/lcsc/2304140030_TDK-NLV32T-047J-EF_C295139.pdf; ComponentLink2Description: JLCPCB Part URL; ComponentLink2URL: https://jlcpcb.com/partdetail/C295139; ComponentLink3Description: LCSC Part URL; ComponentLink3URL: https://lcsc.com/product-detail/Inductors-SMD_TDK-TDK-NLV32T-047J-EF_C295139.html
footprint IND-1210 (1210 (3225M) Inductor)
pins: 1, 2

## NLV32T-047J-PF
designator L?  Inductance: 47nH
Inductor, 47nH, ±5%, 300mΩ, 450mA, SMD 1210; Manufacturer: TDK; Manufacturer Part Number: NLV32T-047J-PF; Self-Resonant Frequency: 1.2GHz; Q Factor: 26@100MHz; Package Size: 1210; JLCPCB Basic Part: No; JLCPCB Part Number: C250170; Supplier 1: LCSC; Category: Inductors; Supplier Part Number 1: C250170; Tolerance: ±5%; Rated Current: 450mA; DC Resistance: 300mΩ; RoHS: Yes; ComponentLink1Description: Datasheet; ComponentLink1URL: https://wmsc.lcsc.com/wmsc/upload/file/pdf/v2/lcsc/2304140030_TDK-NLV32T-047J-PF_C250170.pdf; ComponentLink2Description: JLCPCB Part URL; ComponentLink2URL: https://jlcpcb.com/partdetail/C250170; ComponentLink3Description: LCSC Part URL; ComponentLink3URL: https://lcsc.com/product-detail/Inductors-SMD_TDK-TDK-NLV32T-047J-PF_C250170.html
footprint IND-1210 (1210 (3225M) Inductor)
pins: 1, 2

## NLV32T-056J-EF
designator L?  Inductance: 56nH
Inductor, 56nH, ±5%, 330mΩ, 450mA, SMD 1210; Manufacturer: TDK; Manufacturer Part Number: NLV32T-056J-EF; Self-Resonant Frequency: 1.1GHz; Q Factor: 26@100MHz; Package Size: 1210; JLCPCB Basic Part: No; JLCPCB Part Number: C295161; Supplier 1: LCSC; Category: Inductors; Supplier Part Number 1: C295161; Tolerance: ±5%; Rated Current: 450mA; DC Resistance: 330mΩ; RoHS: Yes; ComponentLink1Description: Datasheet; ComponentLink1URL: https://wmsc.lcsc.com/wmsc/upload/file/pdf/v2/lcsc/2304140030_TDK-NLV32T-056J-EF_C295161.pdf; ComponentLink2Description: JLCPCB Part URL; ComponentLink2URL: https://jlcpcb.com/partdetail/C295161; ComponentLink3Description: LCSC Part URL; ComponentLink3URL: https://lcsc.com/product-detail/Inductors-SMD_TDK-TDK-NLV32T-056J-EF_C295161.html
footprint IND-1210 (1210 (3225M) Inductor)
pins: 1, 2

## NLV32T-056J-PF
designator L?  Inductance: 56nH
Inductor, 56nH, ±5%, 330mΩ, 450mA, SMD 1210; Manufacturer: TDK; Manufacturer Part Number: NLV32T-056J-PF; Self-Resonant Frequency: 1.1GHz; Q Factor: 26@100MHz; Package Size: 1210; JLCPCB Basic Part: No; JLCPCB Part Number: C76834; Supplier 1: LCSC; Category: Inductors; Supplier Part Number 1: C76834; Tolerance: ±5%; Rated Current: 450mA; DC Resistance: 330mΩ; RoHS: Yes; ComponentLink1Description: Datasheet; ComponentLink1URL: https://wmsc.lcsc.com/wmsc/upload/file/pdf/v2/lcsc/2304140030_TDK-NLV32T-056J-PF_C76834.pdf; ComponentLink2Description: JLCPCB Part URL; ComponentLink2URL: https://jlcpcb.com/partdetail/C76834; ComponentLink3Description: LCSC Part URL; ComponentLink3URL: https://lcsc.com/product-detail/Inductors-SMD_TDK-TDK-NLV32T-056J-PF_C76834.html
footprint IND-1210 (1210 (3225M) Inductor)
pins: 1, 2

## NLV32T-068J-EF
designator L?  Inductance: 68nH
Inductor, 68nH, ±5%, 360mΩ, 450mA, SMD 1210; Manufacturer: TDK; Manufacturer Part Number: NLV32T-068J-EF; Self-Resonant Frequency: 1GHz; Q Factor: 27@100MHz; Package Size: 1210; JLCPCB Basic Part: No; JLCPCB Part Number: C295165; Supplier 1: LCSC; Category: Inductors; Supplier Part Number 1: C295165; Tolerance: ±5%; Rated Current: 450mA; DC Resistance: 360mΩ; RoHS: Yes; ComponentLink1Description: Datasheet; ComponentLink1URL: https://wmsc.lcsc.com/wmsc/upload/file/pdf/v2/lcsc/2304140030_TDK-NLV32T-068J-EF_C295165.pdf; ComponentLink2Description: JLCPCB Part URL; ComponentLink2URL: https://jlcpcb.com/partdetail/C295165; ComponentLink3Description: LCSC Part URL; ComponentLink3URL: https://lcsc.com/product-detail/Inductors-SMD_TDK-TDK-NLV32T-068J-EF_C295165.html
footprint IND-1210 (1210 (3225M) Inductor)
pins: 1, 2

## NLV32T-068J-PF
designator L?  Inductance: 68nH
Inductor, 68nH, ±5%, 360mΩ, 450mA, SMD 1210; Manufacturer: TDK; Manufacturer Part Number: NLV32T-068J-PF; Self-Resonant Frequency: 1GHz; Q Factor: 27@100MHz; Package Size: 1210; JLCPCB Basic Part: No; JLCPCB Part Number: C250171; Supplier 1: LCSC; Category: Inductors; Supplier Part Number 1: C250171; Tolerance: ±5%; Rated Current: 450mA; DC Resistance: 360mΩ; RoHS: Yes; ComponentLink1Description: Datasheet; ComponentLink1URL: https://wmsc.lcsc.com/wmsc/upload/file/pdf/v2/lcsc/2304140030_TDK-NLV32T-068J-PF_C250171.pdf; ComponentLink2Description: JLCPCB Part URL; ComponentLink2URL: https://jlcpcb.com/partdetail/C250171; ComponentLink3Description: LCSC Part URL; ComponentLink3URL: https://lcsc.com/product-detail/Inductors-SMD_TDK-TDK-NLV32T-068J-PF_C250171.html
footprint IND-1210 (1210 (3225M) Inductor)
pins: 1, 2

## NLV32T-082J-EF
designator L?  Inductance: 82nH
Inductor, 82nH, ±5%, 400mΩ, 450mA, SMD 1210; Manufacturer: TDK; Manufacturer Part Number: NLV32T-082J-EF; Self-Resonant Frequency: 900MHz; Q Factor: 27@100MHz; Package Size: 1210; JLCPCB Basic Part: No; JLCPCB Part Number: C295140; Supplier 1: LCSC; Category: Inductors; Supplier Part Number 1: C295140; Tolerance: ±5%; Rated Current: 450mA; DC Resistance: 400mΩ; RoHS: Yes; ComponentLink1Description: Datasheet; ComponentLink1URL: https://wmsc.lcsc.com/wmsc/upload/file/pdf/v2/lcsc/2304140030_TDK-NLV32T-082J-EF_C295140.pdf; ComponentLink2Description: JLCPCB Part URL; ComponentLink2URL: https://jlcpcb.com/partdetail/C295140; ComponentLink3Description: LCSC Part URL; ComponentLink3URL: https://lcsc.com/product-detail/Inductors-SMD_TDK-TDK-NLV32T-082J-EF_C295140.html
footprint IND-1210 (1210 (3225M) Inductor)
pins: 1, 2

## NLV32T-082J-PF
designator L?  Inductance: 82nH
Inductor, 82nH, ±5%, 400mΩ, 450mA, SMD 1210; Manufacturer: TDK; Manufacturer Part Number: NLV32T-082J-PF; Self-Resonant Frequency: 900MHz; Q Factor: 27@100MHz; Package Size: 1210; JLCPCB Basic Part: No; JLCPCB Part Number: C250172; Supplier 1: LCSC; Category: Inductors; Supplier Part Number 1: C250172; Tolerance: ±5%; Rated Current: 450mA; DC Resistance: 400mΩ; RoHS: Yes; ComponentLink1Description: Datasheet; ComponentLink1URL: https://wmsc.lcsc.com/wmsc/upload/file/pdf/v2/lcsc/2304140030_TDK-NLV32T-082J-PF_C250172.pdf; ComponentLink2Description: JLCPCB Part URL; ComponentLink2URL: https://jlcpcb.com/partdetail/C250172; ComponentLink3Description: LCSC Part URL; ComponentLink3URL: https://lcsc.com/product-detail/Inductors-SMD_TDK-TDK-NLV32T-082J-PF_C250172.html
footprint IND-1210 (1210 (3225M) Inductor)
pins: 1, 2

## NLV32T-100J-EF
designator L?  Inductance: 10uH
Inductor, 10uH, ±5%, 2.1Ω, 150mA, SMD 1210; Manufacturer: TDK; Manufacturer Part Number: NLV32T-100J-EF; Self-Resonant Frequency: 30MHz; Q Factor: 30@2.52MHz; Package Size: 1210; JLCPCB Basic Part: No; JLCPCB Part Number: C286752; Supplier 1: LCSC; Category: Inductors; Supplier Part Number 1: C286752; Tolerance: ±5%; Rated Current: 150mA; DC Resistance: 2.1Ω; RoHS: Yes; ComponentLink1Description: Datasheet; ComponentLink1URL: https://wmsc.lcsc.com/wmsc/upload/file/pdf/v2/lcsc/2304140030_TDK-NLV32T-100J-EF_C286752.pdf; ComponentLink2Description: JLCPCB Part URL; ComponentLink2URL: https://jlcpcb.com/partdetail/C286752; ComponentLink3Description: LCSC Part URL; ComponentLink3URL: https://lcsc.com/product-detail/Inductors-SMD_TDK-TDK-NLV32T-100J-EF_C286752.html
footprint IND-1210 (1210 (3225M) Inductor)
pins: 1, 2

## NLV32T-100J-EFD
designator L?  Inductance: 10uH
Inductor, 10uH, ±5%, 2.1Ω, 150mA, SMD 1210; Manufacturer: TDK; Manufacturer Part Number: NLV32T-100J-EFD; Self-Resonant Frequency: 30MHz; Q Factor: 30@2.52MHz; Package Size: 1210; JLCPCB Basic Part: No; JLCPCB Part Number: C295313; Supplier 1: LCSC; Category: Inductors; Supplier Part Number 1: C295313; Tolerance: ±5%; Rated Current: 150mA; DC Resistance: 2.1Ω; RoHS: Yes; ComponentLink1Description: Datasheet; ComponentLink1URL: https://wmsc.lcsc.com/wmsc/upload/file/pdf/v2/lcsc/2304140030_TDK-NLV32T-100J-EFD_C295313.pdf; ComponentLink2Description: JLCPCB Part URL; ComponentLink2URL: https://jlcpcb.com/partdetail/C295313; ComponentLink3Description: LCSC Part URL; ComponentLink3URL: https://lcsc.com/product-detail/Inductors-SMD_TDK-TDK-NLV32T-100J-EFD_C295313.html
footprint IND-1210 (1210 (3225M) Inductor)
pins: 1, 2

## NLV32T-100J-PF
designator L?  Inductance: 10uH
Inductor, 10uH, ±5%, 2.1Ω, 150mA, SMD 1210; Manufacturer: TDK; Manufacturer Part Number: NLV32T-100J-PF; Self-Resonant Frequency: 30MHz; Q Factor: 30@2.52MHz; Package Size: 1210; JLCPCB Basic Part: No; JLCPCB Part Number: C76835; Supplier 1: LCSC; Category: Inductors; Supplier Part Number 1: C76835; Tolerance: ±5%; Rated Current: 150mA; DC Resistance: 2.1Ω; RoHS: Yes; ComponentLink1Description: Datasheet; ComponentLink1URL: https://wmsc.lcsc.com/wmsc/upload/file/pdf/v2/lcsc/2304140030_TDK-NLV32T-100J-PF_C76835.pdf; ComponentLink2Description: JLCPCB Part URL; ComponentLink2URL: https://jlcpcb.com/partdetail/C76835; ComponentLink3Description: LCSC Part URL; ComponentLink3URL: https://lcsc.com/product-detail/Inductors-SMD_TDK-TDK-NLV32T-100J-PF_C76835.html
footprint IND-1210 (1210 (3225M) Inductor)
pins: 1, 2

## NLV32T-101J-EF
designator L?  Inductance: 100uH
Inductor, 100uH, ±5%, 10Ω, 40mA, SMD 1210; Manufacturer: TDK; Manufacturer Part Number: NLV32T-101J-EF; Self-Resonant Frequency: 10MHz; Q Factor: 20@0.796MHz; Package Size: 1210; JLCPCB Basic Part: No; JLCPCB Part Number: C295124; Supplier 1: LCSC; Category: Inductors; Supplier Part Number 1: C295124; Tolerance: ±5%; Rated Current: 40mA; DC Resistance: 10Ω; RoHS: Yes; ComponentLink1Description: Datasheet; ComponentLink1URL: https://wmsc.lcsc.com/wmsc/upload/file/pdf/v2/lcsc/2304140030_TDK-NLV32T-101J-EF_C295124.pdf; ComponentLink2Description: JLCPCB Part URL; ComponentLink2URL: https://jlcpcb.com/partdetail/C295124; ComponentLink3Description: LCSC Part URL; ComponentLink3URL: https://lcsc.com/product-detail/Inductors-SMD_TDK-TDK-NLV32T-101J-EF_C295124.html
footprint IND-1210 (1210 (3225M) Inductor)
pins: 1, 2

## NLV32T-101J-EFD
designator L?  Inductance: 100uH
Inductor, 100uH, ±5%, 10Ω, 40mA, SMD 1210; Manufacturer: TDK; Manufacturer Part Number: NLV32T-101J-EFD; Self-Resonant Frequency: 10MHz; Q Factor: 20@0.796MHz; Package Size: 1210; JLCPCB Basic Part: No; JLCPCB Part Number: C286753; Supplier 1: LCSC; Category: Inductors; Supplier Part Number 1: C286753; Tolerance: ±5%; Rated Current: 40mA; DC Resistance: 10Ω; RoHS: Yes; ComponentLink1Description: Datasheet; ComponentLink1URL: https://wmsc.lcsc.com/wmsc/upload/file/pdf/v2/lcsc/2304140030_TDK-NLV32T-101J-EFD_C286753.pdf; ComponentLink2Description: JLCPCB Part URL; ComponentLink2URL: https://jlcpcb.com/partdetail/C286753; ComponentLink3Description: LCSC Part URL; ComponentLink3URL: https://lcsc.com/product-detail/Inductors-SMD_TDK-TDK-NLV32T-101J-EFD_C286753.html
footprint IND-1210 (1210 (3225M) Inductor)
pins: 1, 2

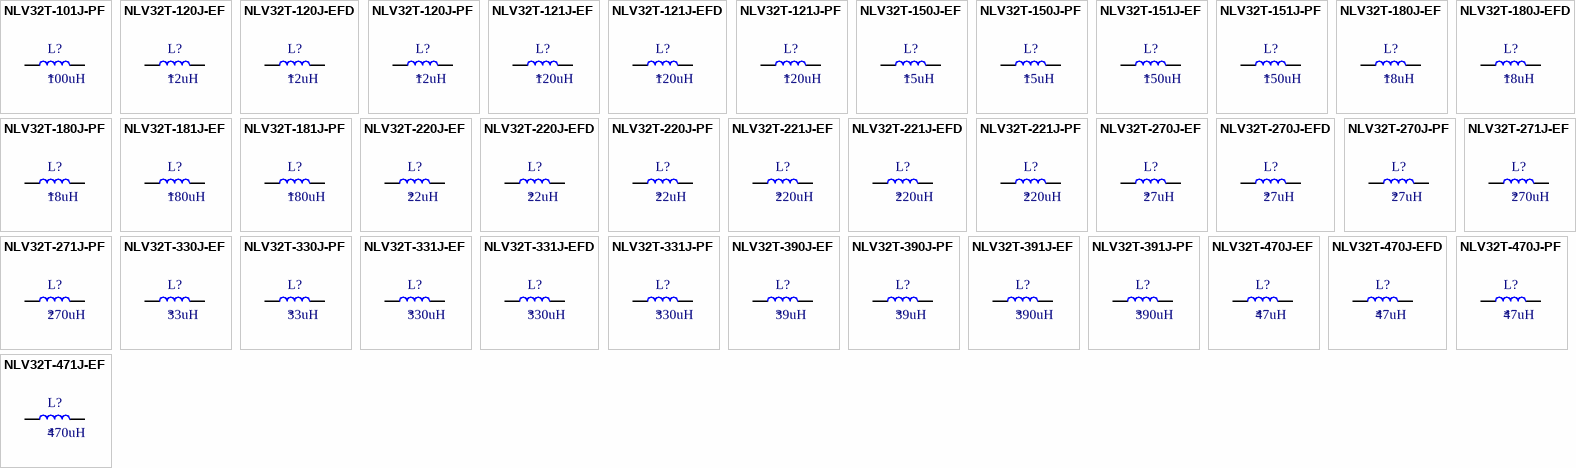
[diagram p8: symbols NLV32T-101J-PF to NLV32T-471J-EF]

## NLV32T-101J-PF
designator L?  Inductance: 100uH
Inductor, 100uH, ±5%, 10Ω, 40mA, SMD 1210; Manufacturer: TDK; Manufacturer Part Number: NLV32T-101J-PF; Self-Resonant Frequency: 10MHz; Q Factor: 20@0.796MHz; Package Size: 1210; JLCPCB Basic Part: No; JLCPCB Part Number: C76836; Supplier 1: LCSC; Category: Inductors; Supplier Part Number 1: C76836; Tolerance: ±5%; Rated Current: 40mA; DC Resistance: 10Ω; RoHS: Yes; ComponentLink1Description: Datasheet; ComponentLink1URL: https://wmsc.lcsc.com/wmsc/upload/file/pdf/v2/lcsc/2304140030_TDK-NLV32T-101J-PF_C76836.pdf; ComponentLink2Description: JLCPCB Part URL; ComponentLink2URL: https://jlcpcb.com/partdetail/C76836; ComponentLink3Description: LCSC Part URL; ComponentLink3URL: https://lcsc.com/product-detail/Inductors-SMD_TDK-TDK-NLV32T-101J-PF_C76836.html
footprint IND-1210 (1210 (3225M) Inductor)
pins: 1, 2

## NLV32T-120J-EF
designator L?  Inductance: 12uH
Inductor, 12uH, ±5%, 2.5Ω, 140mA, SMD 1210; Manufacturer: TDK; Manufacturer Part Number: NLV32T-120J-EF; Self-Resonant Frequency: 20MHz; Q Factor: 30@2.52MHz; Package Size: 1210; JLCPCB Basic Part: No; JLCPCB Part Number: C295113; Supplier 1: LCSC; Category: Inductors; Supplier Part Number 1: C295113; Tolerance: ±5%; Rated Current: 140mA; DC Resistance: 2.5Ω; RoHS: Yes; ComponentLink1Description: Datasheet; ComponentLink1URL: https://wmsc.lcsc.com/wmsc/upload/file/pdf/v2/lcsc/2304140030_TDK-NLV32T-120J-EF_C295113.pdf; ComponentLink2Description: JLCPCB Part URL; ComponentLink2URL: https://jlcpcb.com/partdetail/C295113; ComponentLink3Description: LCSC Part URL; ComponentLink3URL: https://lcsc.com/product-detail/Inductors-SMD_TDK-TDK-NLV32T-120J-EF_C295113.html
footprint IND-1210 (1210 (3225M) Inductor)
pins: 1, 2

## NLV32T-120J-EFD
designator L?  Inductance: 12uH
Inductor, 12uH, ±5%, 2.5Ω, 140mA, SMD 1210; Manufacturer: TDK; Manufacturer Part Number: NLV32T-120J-EFD; Self-Resonant Frequency: 20MHz; Q Factor: 30@2.52MHz; Package Size: 1210; JLCPCB Basic Part: No; JLCPCB Part Number: C295326; Supplier 1: LCSC; Category: Inductors; Supplier Part Number 1: C295326; Tolerance: ±5%; Rated Current: 140mA; DC Resistance: 2.5Ω; RoHS: Yes; ComponentLink1Description: Datasheet; ComponentLink1URL: https://wmsc.lcsc.com/wmsc/upload/file/pdf/v2/lcsc/2304140030_TDK-NLV32T-120J-EFD_C295326.pdf; ComponentLink2Description: JLCPCB Part URL; ComponentLink2URL: https://jlcpcb.com/partdetail/C295326; ComponentLink3Description: LCSC Part URL; ComponentLink3URL: https://lcsc.com/product-detail/Inductors-SMD_TDK-TDK-NLV32T-120J-EFD_C295326.html
footprint IND-1210 (1210 (3225M) Inductor)
pins: 1, 2

## NLV32T-120J-PF
designator L?  Inductance: 12uH
Inductor, 12uH, ±5%, 2.5Ω, 140mA, SMD 1210; Manufacturer: TDK; Manufacturer Part Number: NLV32T-120J-PF; Self-Resonant Frequency: 20MHz; Q Factor: 30@2.52MHz; Package Size: 1210; JLCPCB Basic Part: No; JLCPCB Part Number: C250176; Supplier 1: LCSC; Category: Inductors; Supplier Part Number 1: C250176; Tolerance: ±5%; Rated Current: 140mA; DC Resistance: 2.5Ω; RoHS: Yes; ComponentLink1Description: Datasheet; ComponentLink1URL: https://wmsc.lcsc.com/wmsc/upload/file/pdf/v2/lcsc/2304140030_TDK-NLV32T-120J-PF_C250176.pdf; ComponentLink2Description: JLCPCB Part URL; ComponentLink2URL: https://jlcpcb.com/partdetail/C250176; ComponentLink3Description: LCSC Part URL; ComponentLink3URL: https://lcsc.com/product-detail/Inductors-SMD_TDK-TDK-NLV32T-120J-PF_C250176.html
footprint IND-1210 (1210 (3225M) Inductor)
pins: 1, 2

## NLV32T-121J-EF
designator L?  Inductance: 120uH
Inductor, 120uH, ±5%, 11Ω, 70mA, SMD 1210; Manufacturer: TDK; Manufacturer Part Number: NLV32T-121J-EF; Self-Resonant Frequency: 10MHz; Q Factor: 20@0.796MHz; Package Size: 1210; JLCPCB Basic Part: No; JLCPCB Part Number: C295125; Supplier 1: LCSC; Category: Inductors; Supplier Part Number 1: C295125; Tolerance: ±5%; Rated Current: 70mA; DC Resistance: 11Ω; RoHS: Yes; ComponentLink1Description: Datasheet; ComponentLink1URL: https://wmsc.lcsc.com/wmsc/upload/file/pdf/v2/lcsc/2304140030_TDK-NLV32T-121J-EF_C295125.pdf; ComponentLink2Description: JLCPCB Part URL; ComponentLink2URL: https://jlcpcb.com/partdetail/C295125; ComponentLink3Description: LCSC Part URL; ComponentLink3URL: https://lcsc.com/product-detail/Inductors-SMD_TDK-TDK-NLV32T-121J-EF_C295125.html
footprint IND-1210 (1210 (3225M) Inductor)
pins: 1, 2